# Altium schematic symbol library GPSR_v3.SchLib: 53 symbols
Pins are listed as number, name and electrical type; pins without a type are passive.

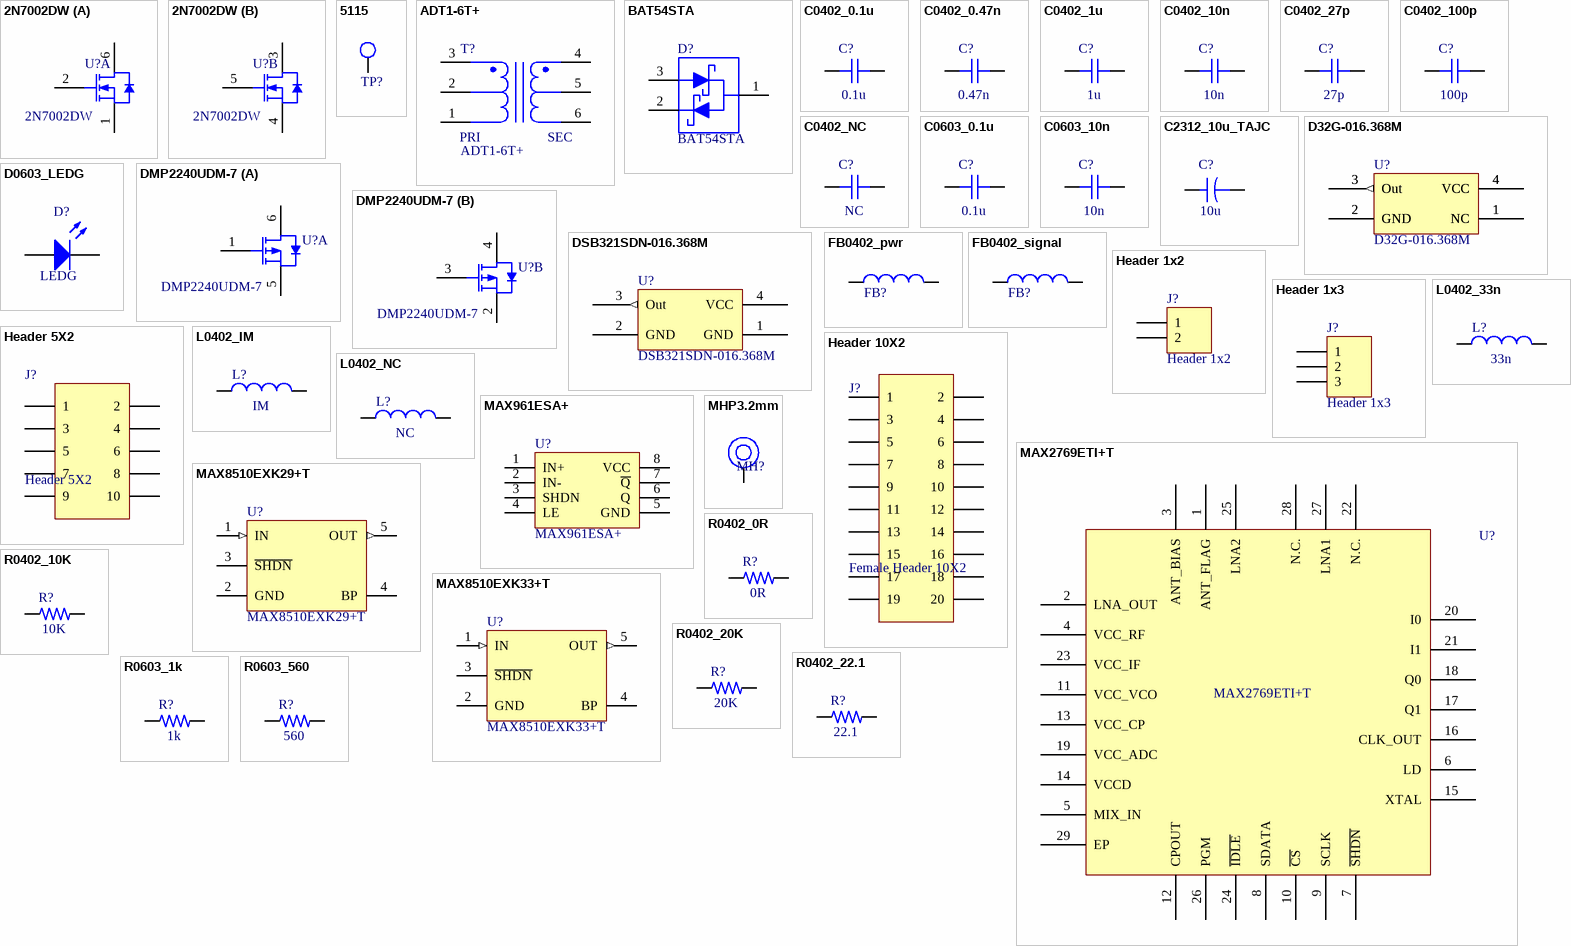
[diagram p0: symbols 2N7002DW to R0603_560]

## 2N7002DW
designator U?
MOSFETs N-Chan Enhancement Mode Field Effect; Manufacturer_Name: onsemi; ComponentLink1Description: Datasheet Link; ComponentLink1URL: https://datasheet.datasheetarchive.com/originals/distributors/Datasheets_SAMA/951ecc1ab16cbf3d5524c3c8fb4b034a.pdf; Supplier 1: Mouser; Supplier Part Number 1: 512-2N7002W; Manufacturer_Part_Number: 2N7002DW
footprint SOT65P210X110-6N
part A pins: 1 S1, 2 G1, 6 D1
part B pins: 3 D2, 4 S2, 5 G2

## 5115
designator TP?  (value not drawn)
Test Point Brown; Manufacturer_Name: Keystone Electronics; ComponentLink1Description: Datasheet Link; ComponentLink1URL: https://www.keyelco.com/userAssets/file/M65p56.pdf; Manufacturer_Part_Number: 5115; Supplier 1: Mouser; Supplier Part Number 1: 534-5115
footprint 5115
pins: 1

## ADT1-6T+
designator T?
Audio Transformers / Signal Transformers RF XFMR / SURF MOUNT / RoHS; Manufacturer_Name: Mini-Circuits; ComponentLink1Description: Datasheet Link; ComponentLink1URL: https://www.mouser.tw/datasheet/2/1030/ADT1-6T_2b-1700294.pdf; Supplier 1: Mouser; Supplier Part Number 1: 139-ADT1-6T; Manufacturer_Part_Number: ADT1-6T+
footprint ADT16T
pins: 1 PRIMARY, 2 NOT_USED, 3 PRIMARY_DOT, 4 SECONDARY_DOT, 5 SECONARY_CT, 6 SECONDARY
text: PRI; SEC

## BAT54STA
designator D?
Schottky Diodes & Rectifiers Series 30V 200mA; Manufacturer_Name: Diodes Incorporated; Supplier 1: Mouser; ComponentLink1Description: Datasheet Link; ComponentLink1URL: https://www.mouser.tw/datasheet/2/115/DIODS12182_1-2541735.pdf; Supplier Part Number 1: 522-BAT54STA; Manufacturer_Part_Number: BAT54STA
footprint SOT96P240X115-3N
pins: 1 K/A, 2 K, 3 A

## C0402_0.1u
designator C?, comment value 0.1u  (hidden comment: 0.1uF)
Capacitor
footprint C0402 (Chip Capacitor, Body 1.0x0.5mm, IPC High Density)
pins: 1, 2

## C0402_0.47n
designator C?, comment value 0.47n  (hidden comment: 0.47nF)
Capacitor
footprint C0402 (Chip Capacitor, Body 1.0x0.5mm, IPC High Density)
pins: 1, 2

## C0402_1u
designator C?, comment value 1u  (hidden comment: 1uF)
Capacitor
footprint C0402 (Chip Capacitor, Body 1.0x0.5mm, IPC High Density)
pins: 1, 2

## C0402_10n
designator C?, comment value 10n  (hidden comment: 10nF)
Capacitor
footprint C0402 (Chip Capacitor, Body 1.0x0.5mm, IPC High Density)
pins: 1, 2

## C0402_27p
designator C?, comment value 27p  (hidden comment: 27pF)
Capacitor
footprint C0402 (Chip Capacitor, Body 1.0x0.5mm, IPC High Density)
pins: 1, 2

## C0402_100p
designator C?, comment value 100p  (hidden comment: 100pF)
Capacitor
footprint C0402 (Chip Capacitor, Body 1.0x0.5mm, IPC High Density)
pins: 1, 2

## C0402_NC
designator C?, comment value NC  (hidden comment: No Connection)
Capacitor
footprint C0402 (Chip Capacitor, Body 1.0x0.5mm, IPC High Density)
pins: 1, 2

## C0603_0.1u
designator C?, comment value 0.1u  (hidden comment: 0.1uF)
Capacitor
footprint C0603 (Chip Capacitor, Body 1.6x0.8mm, IPC High Density)
pins: 1, 2

## C0603_10n
designator C?, comment value 10n  (hidden comment: 10nF)
Capacitor
footprint C0603 (Chip Capacitor, Body 1.6x0.8mm, IPC High Density)
pins: 1, 2

## C2312_10u_TAJC
designator C?, comment value 10u  (hidden comment: 10uF)
Tantalum Capacitors - Solid SMD 35volts 10uF 10%; Manufacturer_Name: Kyocera AVX; Manufacturer_Part_Number: TAJC106K035SNJ; ComponentLink1Description: Datasheet Link; ComponentLink1URL: http://datasheets.avx.com/TAJ.pdf; Supplier 1: Mouser; Supplier Part Number 1: 581-TAJC106K035R
footprint CAPPM6032X280N
pins: 1, 2

## D32G-016.368M
designator U?
XTAL OSC TCXO 16.3680MHZ SNWV; Manufacturer_Name: Connor Winfield; Supplier 1: Digikey; Supplier Part Number 1: CW660TR-ND; ComponentLink1Description: Datasheet Link; ComponentLink1URL: http://www.conwin.com/datasheets/tx/tx240.pdf; Manufacturer_Part_Number: D32G-016.368M
footprint OSC-3225-D32G
pins: 1 NC, 1 NC, 2 GND, 2 GND, 3 Out (out), 3 Out (out), 4 VCC, 4 VCC

## D0603_LEDG
designator D?  value LEDG  (hidden comment: D0603_LEDG)
LED, green
footprint D0603 (Chip Diode, Body 1.6x0.8mm, IPC High Density)
pins: 1 A, 2 K

## DMP2240UDM-7
designator U?
MOSFETs Dual P-Channel; Manufacturer_Name: Diodes Incorporated; ComponentLink1Description: Datasheet Link; ComponentLink1URL: https://www.diodes.com//assets/Datasheets/ds31197.pdf; Supplier 1: Mouser; Supplier Part Number 1: 621-DMP2240UDM-7; Manufacturer_Part_Number: DMP2240UDM-7
footprint SOT95P285X140-6N
part A pins: 1 G1, 5 S1, 6 D1
part B pins: 2 S2, 3 G2, 4 D2

## DSB321SDN-016.368M
designator U?
XTAL OSC TCXO 16.3680MHZ SNWV; Manufacturer_Name: KDS DAISHINKU; ComponentLink1Description: Datasheet Link; ComponentLink1URL: http://ftp.kds.info/products/DSA_DSBxxxSDN_car_en.pdf; Manufacturer_Part_Number: DSB321SDN-016.368M
footprint OSC-3225-DSB321SDN
pins: 1 GND, 2 GND, 3 Out (out), 4 VCC

## FB0402_pwr
designator FB?  (value not drawn)
Bead, power; Value: Bead
footprint FB0402 (Chip Ferrite Bead, Body 1.0x0.5mm, IPC High Density)
pins: 1, 2

## FB0402_signal
designator FB?  (value not drawn)
Bead, signal; Value: Bead
footprint FB0402 (Chip Ferrite Bead, Body 1.0x0.5mm, IPC High Density)
pins: 1, 2

## Header 1x2
designator J?
Header, 2-Pin; LatestRevisionDate: 17-Jul-2002; LatestRevisionNote: Re-released for DXP Platform.; Publisher: Altium Limited
footprint HDR1X2 (Connector; Header; 2 Position)
signal-integrity model Connector
pins: 1, 2

## Header 1x3
designator J?
Header, 3-Pin; LatestRevisionDate: 17-Jul-2002; LatestRevisionNote: Re-released for DXP Platform.; Publisher: Altium Limited
footprint HDR1X3 (Connector; Header; 3 Position)
signal-integrity model Connector
pins: 1, 2, 3

## Header 5X2
designator J?
Header, 5-Pin, Dual row; LatestRevisionDate: 17-Jul-2002; LatestRevisionNote: Re-released for DXP Platform.; Publisher: Altium Limited
footprint HDR2X5 (Connector; Header; 5x2 Position)
signal-integrity model Connector
pins: 1, 2, 3, 4, 5, 6, 7, 8, 9, 10

## Header 10X2
designator J?, comment Female Header 10X2
Female Header, 10-Pin, Dual row; LatestRevisionDate: 17-Jul-2002; LatestRevisionNote: Re-released for DXP Platform.; Publisher: Altium Limited
footprint HDR2X10 (Connector; Header; 10x2 Position)
signal-integrity model Connector
pins: 1, 2, 3, 4, 5, 6, 7, 8, 9, 10, 11, 12, 13, 14, 15, 16, 17, 18, 19, 20

## L0402_33n
designator L?, comment value 33n  (hidden comment: 33nH)
Inductor
footprint L0402 (Chip Inductor, Body 1.0x0.5mm, IPC High Density)
pins: 1, 2

## L0402_IM
designator L?, comment value IM  (hidden comment: Impedance Matching)
Inductor
footprint L0402 (Chip Inductor, Body 1.0x0.5mm, IPC High Density)
pins: 1, 2

## L0402_NC
designator L?, comment value NC  (hidden comment: No Connection)
Inductor
footprint L0402 (Chip Inductor, Body 1.0x0.5mm, IPC High Density)
pins: 1, 2

## MAX961ESA+
designator U?
Analog Comparators Single/Dual/Quad, Ultra-High-Speed, +3V; Manufacturer_Name: Analog Devices / Maxim Integrated; ComponentLink1Description: Datasheet Link; ComponentLink1URL: http://datasheets.maximintegrated.com/en/ds/MAX961-MAX999.pdf; Supplier 1: Mouser; Supplier Part Number 1: 700-MAX961ESA; Manufacturer_Part_Number: MAX961ESA+
footprint SOIC127P600X175-8N
pins: 1 IN+, 2 IN-, 3 SHDN, 4 LE, 5 GND, 6 Q, 7 ~{Q}, 8 VCC

## MAX2769ETI+T
designator U?  (value not drawn)
RF Receiver Universal GPS Receiver; Manufacturer_Part_Number: 700-MAX2769ETI+T; ComponentLink1Description: Datasheet Link; ComponentLink1URL: https://www.analog.com/media/en/technical-documentation/data-sheets/MAX2769.pdf; Supplier 1: Mouser; Supplier Part Number 1: 700-MAX2769ETI+T; Manufacturer_Name: MAX2769ETI+T
footprint QFN50P500X500X80-29N
pins: 1 ANT_FLAG, 2 LNA_OUT, 3 ANT_BIAS, 4 VCC_RF, 5 MIX_IN, 6 LD, 7 ~{SHDN}, 8 SDATA, 9 SCLK, 10 ~{CS}, 11 VCC_VCO, 12 CPOUT, 13 VCC_CP, 14 VCCD, 15 XTAL, 16 CLK_OUT, 17 Q1, 18 Q0, 19 VCC_ADC, 20 I0, 21 I1, 22 N.C., 23 VCC_IF, 24 ~{IDLE}, 25 LNA2, 26 PGM, 27 LNA1, 28 N.C., 29 EP

## MAX8510EXK29+T
designator U?
LDO Voltage Regulators Ultra-Low-Noise, High PSRR, Low-Dropout, Vout=2.85V; Manufacturer_Name: Analog Devices / Maxim Integrated; ComponentLink1Description: Datasheet Link; ComponentLink1URL: https://www.mouser.tw/datasheet/2/609/1/MAX8510_MAX8512-3471024.pdf; Supplier 1: Mouser; Supplier Part Number 1: 700-MAX8510EXK29T; Manufacturer_Part_Number: MAX8510EXK29+T
footprint SOT65P210X110-5N
pins: 1 IN (in), 2 GND, 3 ~{SHDN}, 4 BP, 5 OUT (out)

## MAX8510EXK33+T
designator U?
LDO Voltage Regulators Ultra-Low-Noise, High PSRR, Low-Dropout, Vout=3.3V; Manufacturer_Name: Analog Devices / Maxim Integrated; ComponentLink1Description: Datasheet Link; ComponentLink1URL: https://www.mouser.tw/datasheet/2/609/1/MAX8510_MAX8512-3471024.pdf; Supplier 1: Mouser; Supplier Part Number 1: 700-MAX8510EXK33T; Manufacturer_Part_Number: MAX8510EXK33+T
footprint SOT65P210X110-5N
pins: 1 IN (in), 2 GND, 3 ~{SHDN}, 4 BP, 5 OUT (out)

## MHP3.2mm
designator MH?  (value not drawn)
Mounting Hole Plated 3.2mm
footprint MHP3.2mm (Mounting Hole Plated 3.2mm)
pins: 1

## R0402_0R
designator R?, comment value 0R  (hidden comment: 0Ω)
Resistor
footprint R0402 (Chip Resistor, Body 1.0x0.5mm, IPC High Density)
pins: 1, 2

## R0402_10K
designator R?, comment value 10K  (hidden comment: 10kΩ)
Resistor
footprint R0402 (Chip Resistor, Body 1.0x0.5mm, IPC High Density)
pins: 1, 2

## R0402_20K
designator R?, comment value 20K  (hidden comment: 20kΩ)
Resistor
footprint R0402 (Chip Resistor, Body 1.0x0.5mm, IPC High Density)
pins: 1, 2

## R0402_22.1
designator R?, comment value 22.1  (hidden comment: 22.1Ω)
Resistor
footprint R0402 (Chip Resistor, Body 1.0x0.5mm, IPC High Density)
pins: 1, 2

## R0603_1k
designator R?, comment value 1k  (hidden comment: 1kΩ)
Resistor
footprint R0603 (Chip Resistor, Body 1.6x0.8mm, IPC High Density)
pins: 1, 2

## R0603_560
designator R?, comment value 560  (hidden comment: 560Ω)
Resistor
footprint R0603 (Chip Resistor, Body 1.6x0.8mm, IPC High Density)
pins: 1, 2

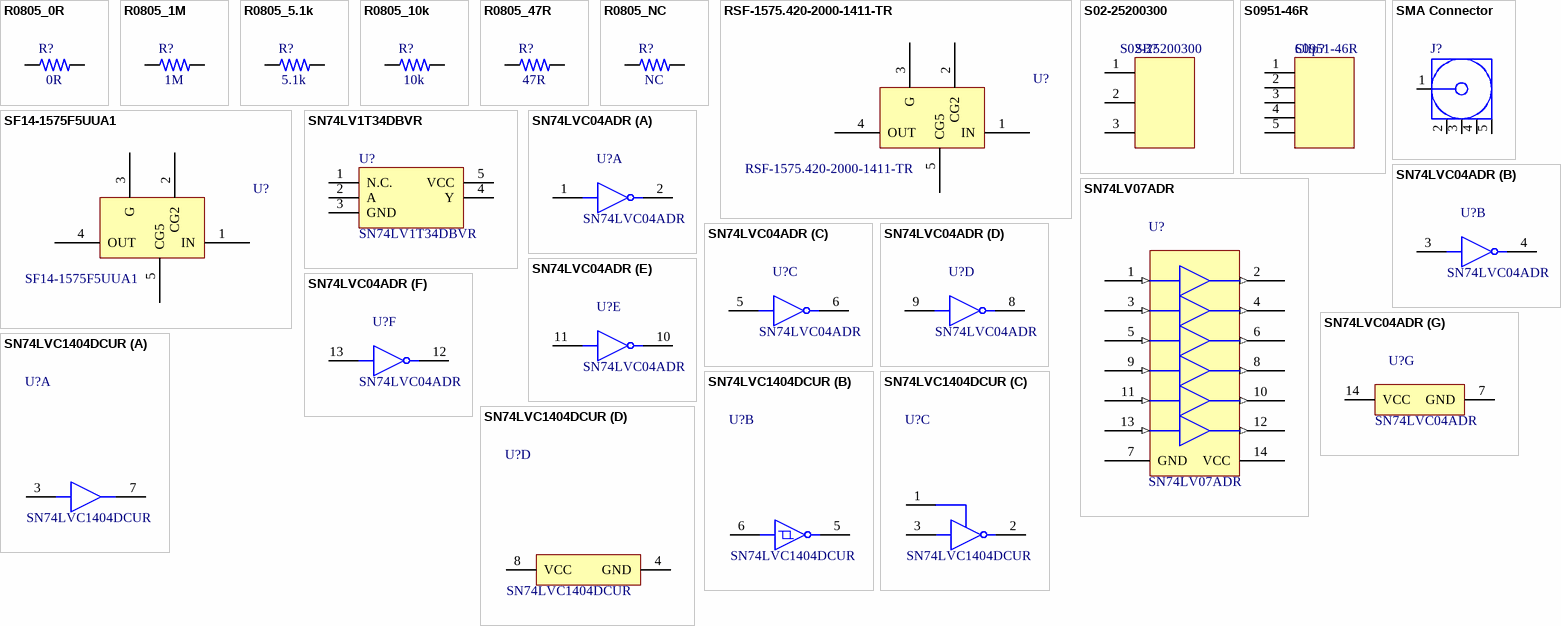
[diagram p1: symbols R0805_0R to SN74LVC1404DCUR]

## R0805_0R
designator R?, comment value 0R  (hidden comment: 0Ω)
Resistor
footprint R0805 (Chip Resistor, Body 2.0x1.2mm, IPC Medium Density)
pins: 1, 2

## R0805_1M
designator R?, comment value 1M  (hidden comment: 1MΩ)
Resistor
footprint R0805 (Chip Resistor, Body 2.0x1.2mm, IPC Medium Density)
pins: 1, 2

## R0805_5.1k
designator R?, comment value 5.1k  (hidden comment: 5.1kΩ)
Resistor
footprint R0805 (Chip Resistor, Body 2.0x1.2mm, IPC Medium Density)
pins: 1, 2

## R0805_10k
designator R?, comment value 10k  (hidden comment: 10kΩ)
Resistor
footprint R0805 (Chip Resistor, Body 2.0x1.2mm, IPC Medium Density)
pins: 1, 2

## R0805_47R
designator R?, comment value 47R  (hidden comment: 47Ω)
Resistor
footprint R0805 (Chip Resistor, Body 2.0x1.2mm, IPC Medium Density)
pins: 1, 2

## R0805_NC
designator R?, comment value NC  (hidden comment: No Connection)
Resistor
footprint R0805 (Chip Resistor, Body 2.0x1.2mm, IPC Medium Density)
pins: 1, 2

## RSF-1575.420-2000-1411-TR
designator U?
FILTER SAW 1575.42MHZ 5SMD; Manufacturer_Name: Raltron Electronics; ComponentLink1Description: Datasheet Link; ComponentLink1URL: https://www.raltron.com/webproducts/specs/SAW_FILTER/RSF-1575.420-2000-1411-TR.pdf; Supplier 1: Digikey; Supplier Part Number 1: 2151-RSF-1575.420-2000-1411-TR-ND; Manufacturer_Part_Number: RSF-1575.420-2000-1411-TR
footprint 5-SMD
pins: 1 IN, 2 CG2, 3 G, 4 OUT, 5 CG5

## S02-25200300
designator SB?
EMI Gaskets, Sheets, Absorbers & Shielding EMC Shield Can .2mm thick, 25X20X03; Manufacturer_Name: Harwin; ComponentLink1Description: Datasheet Link; ComponentLink1URL: https://www.mouser.tw/datasheet/2/181/S02_XXXXXXX0-1273990.pdf; Supplier 1: Mouser; Supplier Part Number 1: 855-S02-25200300; Manufacturer_Part_Number: S02-25200300
footprint SH-Box-3PIN-27x17
pins: 1, 2, 3

## S0951-46R
designator Clip?
EMI Gaskets, Sheets, Absorbers & Shielding EMC Shield Can Clip 0.20MM Thick Cans; Manufacturer_Name: Harwin; ComponentLink1Description: Datasheet Link; ComponentLink1URL: https://componentsearchengine.com/Datasheets/2/S0951-46R.pdf; Supplier 1: Mouser; Supplier Part Number 1: 855-S0951-46R; Manufacturer_Part_Number: S0951-46R
footprint S095146R
pins: 1, 2, 3, 4, 5

## SF14-1575F5UUA1
designator U?
Signal Conditioning SAW FILTER 1575MHz; Manufacturer_Name: KYOCERA AVX; ComponentLink1Description: Datasheet Link; ComponentLink1URL: https://www.mouser.tw/datasheet/2/40/AVX_140127_Connectivity-1158389.pdf; Supplier 1: Mouser; Supplier Part Number 1: 581-SF14-1575F5UUA1; Manufacturer_Part_Number: SF14-1575F5UUA1
footprint 5-SMD
pins: 1 IN, 2 CG2, 3 G, 4 OUT, 5 CG5

## SMA Connector
designator J?  (value not drawn)
RF Connectors / Coaxial Connectors SMA Coaxial Straight, 50Ω
footprint SMA-JACK
pins: 1 Signal "Signal Pin", 2 GND (power), 3 GND (power), 4 GND (power), 5 GND (power)

## SN74LV1T34DBVR
designator U?
Translation - Voltage Levels SGL Pwr Spply Buffer GATE CMOS; Manufacturer_Name: Texas Instruments; ComponentLink1Description: Datasheet Link; ComponentLink1URL: http://www.ti.com/lit/gpn/sn74lv1t34; Supplier 1: Mouser; Supplier Part Number 1: 595-SN74LV1T34DBVR; Manufacturer_Part_Number: SN74LV1T34DBVR
footprint SOT95P280X145-5N
pins: 1 N.C., 2 A, 3 GND, 4 Y, 5 VCC

## SN74LV07ADR
designator U?
Buffers & Line Drivers Hex w/ HV Output; Manufacturer_Name: Texas Instruments; Supplier 1: Mouser; ComponentLink1Description: Datasheet Link; ComponentLink1URL: https://www.ti.com/lit/gpn/sn74lv07a; Supplier Part Number 1: 595-SN74LV07ADR; Manufacturer_Part_Number: SN74LV07ADR
footprint SOIC127P600X175-14N
pins: 1 1A (in), 2 1Y (out), 3 2A (in), 4 2Y (out), 5 3A (in), 6 3Y (out), 7 GND, 8 4Y (out), 9 4A (in), 10 5Y (out), 11 5A (in), 12 6Y (out), 13 6A (in), 14 VCC (power)

## SN74LVC04ADR
designator U?
Inverters Hex; Manufacturer_Name: Texas Instruments; ComponentLink1Description: Datasheet Link; ComponentLink1URL: http://www.ti.com/lit/gpn/sn74lvc04a; Supplier 1: Mouser; Supplier Part Number 1: 595-SN74LVC04ADR; Manufacturer_Part_Number: SN74LVC04ADR
footprint SOIC127P600X175-14N
part A pins: 1 1A, 2 1Y
part B pins: 3 2A, 4 2Y
part C pins: 5 3A, 6 3Y
part D pins: 8 4Y, 9 4A
part E pins: 10 5Y, 11 5A
part F pins: 12 6Y, 13 6A
part G pins: 7 GND, 14 VCC (power)

## SN74LVC1404DCUR
designator U?
2-ch, 1.65-V to 5.5-V inverters with Schmitt-Trigger inputs; Manufacturer_Name: Texas Instruments; ComponentLink1Description: Datasheet Link; ComponentLink1URL: http://www.ti.com/lit/gpn/sn74lvc1404; Supplier 1: Mouser; Supplier Part Number 1: 595-SN74LVC1404DCUR; Manufacturer_Part_Number: SN74LVC1404DCUR
footprint SOP50P310X90-8N
part A pins: 3 XIN, 7 OSCOUT
part B pins: 5 Y, 6 A
part C pins: 1 CTRL, 2 XOUT, 3 XIN
part D pins: 4 GND, 8 VCC